# Altium integrated library Capacitor - Aluminium TH.IntLib: 4591 symbols (part 20 of 68)
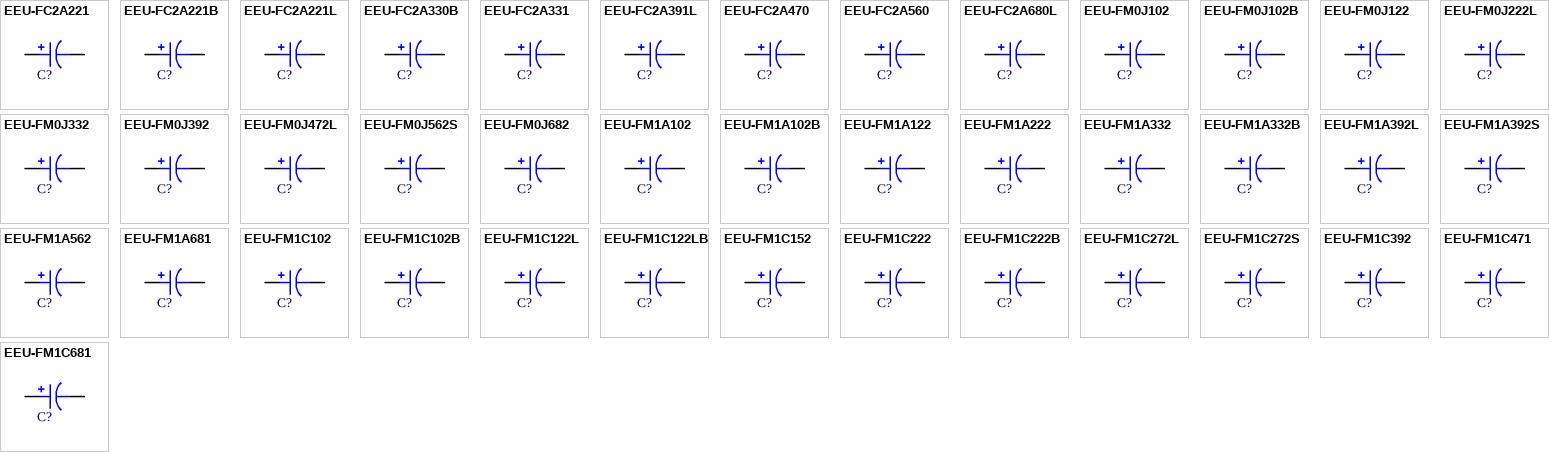
[diagram p133: symbols EEU-FC2A221 to EEU-FM1C681]

## EEU-FM1C102
designator C?, comment 1000uF  (value not drawn)
CAP ALUM 1000UF 20% 16V RADIAL; Part Number: EEU-FM1C102; Manufacturer: Panasonic Electronic Components; TemperatureRange: -40C ~ 105C; Type: Polar; Ripple Current: 1.635A @ 120Hz; Impedance: 19 mOhm; Value: 1000uF; PartId: 25931; Supplier 1: Digi-Key; Supplier Part Number 1: P12366-ND; ComponentLink1Description: Datasheet; ComponentLink1URL: https://industrial.panasonic.com/cdbs/www-data/pdf/RDF0000/ABA0000C63.pdf; ComponentLink2Description: Digi-Key Listing; ComponentLink2URL: https://www.digikey.com/product-detail/en/panasonic-electronic-components/EEU-FM1C102/P12366-ND/613727; Tolerance: 20%; Voltage: 16V; Price: 0.74; Device Package: Radial, Can, 10mm
footprint CAP AL TH D10 L5 H22
pins: 1, 2

## EEU-FM1C102B
designator C?, comment 1000uF  (value not drawn)
CAP ALUM 1000UF 20% 16V RADIAL; Part Number: EEU-FM1C102B; Manufacturer: Panasonic Electronic Components; TemperatureRange: -40C ~ 105C; Type: Polar; Ripple Current: 1.635A @ 120Hz; Impedance: 19 mOhm; Value: 1000uF; PartId: 25784; Supplier 1: Digi-Key; Supplier Part Number 1: P19698TB-ND; ComponentLink1Description: Datasheet; ComponentLink1URL: http://industrial.panasonic.com/www-cgi/jvcr13pz.cgi?E+PZ+3+ABA0108+EEUFM1C102B+7+WW; ComponentLink2Description: Digi-Key Listing; ComponentLink2URL: https://www.digikey.com/product-detail/en/panasonic-electronic-components/EEU-FM1C102B/P19698TB-ND/616336; Tolerance: 20%; Voltage: 16V; Price: 0.2588; Device Package: Radial, Can, 10mm
footprint CAP AL TH D10 L5 H22
pins: 1, 2

## EEU-FM1C122L
designator C?, comment 1200uF  (value not drawn)
CAP ALUM 1200UF 20% 16V RADIAL; Part Number: EEU-FM1C122L; Manufacturer: Panasonic Electronic Components; TemperatureRange: -40C ~ 105C; Type: Polar; Ripple Current: 1.976A @ 120Hz; Impedance: 18 mOhm; Value: 1200uF; PartId: 26065; Supplier 1: Digi-Key; Supplier Part Number 1: P12367-ND; ComponentLink1Description: Datasheet; ComponentLink1URL: http://industrial.panasonic.com/www-cgi/jvcr13pz.cgi?E+PZ+3+ABA0108+EEUFM1C122L+7+WW; ComponentLink2Description: Digi-Key Listing; ComponentLink2URL: https://www.digikey.com/product-detail/en/panasonic-electronic-components/EEU-FM1C122L/P12367-ND/613728; Tolerance: 20%; Voltage: 16V; Price: 0.69; Device Package: Radial, Can, 10mm
footprint CAP AL TH D10 L5 H30
pins: 1, 2

## EEU-FM1C122LB
designator C?, comment 1200uF  (value not drawn)
CAP ALUM 1200UF 20% 16V RADIAL; Part Number: EEU-FM1C122LB; Manufacturer: Panasonic Electronic Components; TemperatureRange: -40C ~ 105C; Type: Polar; Ripple Current: 1.976A @ 120Hz; Impedance: 18 mOhm; Value: 1200uF; PartId: 26008; Supplier 1: Digi-Key; Supplier Part Number 1: P19699TB-ND; ComponentLink1Description: Datasheet; ComponentLink1URL: http://industrial.panasonic.com/www-cgi/jvcr13pz.cgi?E+PZ+3+ABA0108+EEUFM1C122LB+7+WW; ComponentLink2Description: Digi-Key Listing; ComponentLink2URL: https://www.digikey.com/product-detail/en/panasonic-electronic-components/EEU-FM1C122LB/P19699TB-ND/616337; Tolerance: 20%; Voltage: 16V; Price: 0.2762; Device Package: Radial, Can, 10mm
footprint CAP AL TH D10 L5 H30
pins: 1, 2

## EEU-FM1C152
designator C?, comment 1500uF  (value not drawn)
CAP ALUM 1500UF 20% 16V RADIAL; Part Number: EEU-FM1C152; Manufacturer: Panasonic Electronic Components; TemperatureRange: -40C ~ 105C; Type: Polar; Ripple Current: 2.08A @ 120Hz; Impedance: 18 mOhm; Value: 1500uF; PartId: 23279; Supplier 1: Digi-Key; Supplier Part Number 1: P12368-ND; ComponentLink1Description: Datasheet; ComponentLink1URL: https://industrial.panasonic.com/cdbs/www-data/pdf/RDF0000/ABA0000C63.pdf; ComponentLink2Description: Digi-Key Listing; ComponentLink2URL: https://www.digikey.com/product-detail/en/panasonic-electronic-components/EEU-FM1C152/P12368-ND/613729; Tolerance: 20%; Voltage: 16V; Price: 0.78; Device Package: Radial, Can, 12.5mm
footprint CAP AL TH D12.5 L5 H22
pins: 1, 2

## EEU-FM1C222
designator C?, comment 2200uF  (value not drawn)
CAP ALUM 2200UF 20% 16V RADIAL; Part Number: EEU-FM1C222; Manufacturer: Panasonic Electronic Components; TemperatureRange: -40C ~ 105C; Type: Polar; Ripple Current: 2.552A @ 120Hz; Impedance: 15 mOhm; Value: 2200uF; PartId: 23921; Supplier 1: Digi-Key; Supplier Part Number 1: P12369-ND; ComponentLink1Description: Datasheet; ComponentLink1URL: https://industrial.panasonic.com/cdbs/www-data/pdf/RDF0000/ABA0000C63.pdf; ComponentLink2Description: Digi-Key Listing; ComponentLink2URL: https://www.digikey.com/product-detail/en/panasonic-electronic-components/EEU-FM1C222/P12369-ND/613730; Tolerance: 20%; Voltage: 16V; Price: 0.96; Device Package: Radial, Can, 12.5mm
footprint CAP AL TH D12.5 L5 H27
pins: 1, 2

## EEU-FM1C222B
designator C?, comment 2200uF  (value not drawn)
CAP ALUM 2200UF 20% 16V RADIAL; Part Number: EEU-FM1C222B; Manufacturer: Panasonic Electronic Components; TemperatureRange: -40C ~ 105C; Type: Polar; Ripple Current: 2.552A @ 120Hz; Impedance: 15 mOhm; Value: 2200uF; PartId: 23939; Supplier 1: Digi-Key; Supplier Part Number 1: P19700CT-ND; ComponentLink1Description: Datasheet; ComponentLink1URL: http://industrial.panasonic.com/www-cgi/jvcr13pz.cgi?E+PZ+3+ABA0108+EEUFM1C222B+7+WW; ComponentLink2Description: Digi-Key Listing; ComponentLink2URL: https://www.digikey.com/product-detail/en/panasonic-electronic-components/EEU-FM1C222B/P19700CT-ND/6109598; Tolerance: 20%; Voltage: 16V; Price: 0.97; Device Package: Radial, Can, 12.5mm
footprint CAP AL TH D12.5 L5 H27
pins: 1, 2

## EEU-FM1C272L
designator C?, comment 2700uF  (value not drawn)
CAP ALUM 2700UF 20% 16V RADIAL; Part Number: EEU-FM1C272L; Manufacturer: Panasonic Electronic Components; TemperatureRange: -40C ~ 105C; Type: Polar; Ripple Current: 2.904A @ 120Hz; Impedance: 13 mOhm; Value: 2700uF; PartId: 24244; Supplier 1: Digi-Key; Supplier Part Number 1: P12370-ND; ComponentLink1Description: Datasheet; ComponentLink1URL: http://industrial.panasonic.com/www-cgi/jvcr13pz.cgi?E+PZ+3+ABA0108+EEUFM1C272L+7+WW; ComponentLink2Description: Digi-Key Listing; ComponentLink2URL: https://www.digikey.com/product-detail/en/panasonic-electronic-components/EEU-FM1C272L/P12370-ND/613731; Tolerance: 20%; Voltage: 16V; Price: 1.01; Device Package: Radial, Can, 12.5mm
footprint CAP AL TH D12.5 L5 H35.5
pins: 1, 2

## EEU-FM1C272S
designator C?, comment 2700uF  (value not drawn)
CAP ALUM 2700UF 20% 16V RADIAL; Part Number: EEU-FM1C272S; Manufacturer: Panasonic Electronic Components; TemperatureRange: -40C ~ 105C; Type: Polar; Ripple Current: 2.64A @ 120Hz; Impedance: 17 mOhm; Value: 2700uF; PartId: 26415; Supplier 1: Digi-Key; Supplier Part Number 1: P12371-ND; ComponentLink1Description: Datasheet; ComponentLink1URL: http://industrial.panasonic.com/www-cgi/jvcr13pz.cgi?E+PZ+3+ABA0108+EEUFM1C272S+7+WW; ComponentLink2Description: Digi-Key Listing; ComponentLink2URL: https://www.digikey.com/product-detail/en/panasonic-electronic-components/EEU-FM1C272S/P12371-ND/613732; Tolerance: 20%; Voltage: 16V; Price: 1.08; Device Package: Radial, Can, 16mm
footprint CAP AL TH D16 L7.5 H22
pins: 1, 2

## EEU-FM1C392
designator C?, comment 3900uF  (value not drawn)
CAP ALUM 3900UF 20% 16V RADIAL; Part Number: EEU-FM1C392; Manufacturer: Panasonic Electronic Components; TemperatureRange: -40C ~ 105C; Type: Polar; Ripple Current: 3.056A @ 120Hz; Impedance: 14 mOhm; Value: 3900uF; PartId: 26871; Supplier 1: Digi-Key; Supplier Part Number 1: P12374-ND; ComponentLink1Description: Datasheet; ComponentLink1URL: https://industrial.panasonic.com/cdbs/www-data/pdf/RDF0000/ABA0000C63.pdf; ComponentLink2Description: Digi-Key Listing; ComponentLink2URL: https://www.digikey.com/product-detail/en/panasonic-electronic-components/EEU-FM1C392/P12374-ND/613735; Tolerance: 20%; Voltage: 16V; Price: 1.28; Device Package: Radial, Can, 16mm
footprint CAP AL TH D16 L7.5 H27
pins: 1, 2

## EEU-FM1C471
designator C?, comment 470uF  (value not drawn)
CAP ALUM 470UF 20% 16V RADIAL; Part Number: EEU-FM1C471; Manufacturer: Panasonic Electronic Components; TemperatureRange: -40C ~ 105C; Type: Polar; Ripple Current: 967.5mA @ 120Hz; Impedance: 38 mOhm; Value: 470uF; PartId: 24825; Supplier 1: Digi-Key; Supplier Part Number 1: P12375-ND; ComponentLink1Description: Datasheet; ComponentLink1URL: https://industrial.panasonic.com/cdbs/www-data/pdf/RDF0000/ABA0000C63.pdf; ComponentLink2Description: Digi-Key Listing; ComponentLink2URL: https://www.digikey.com/product-detail/en/panasonic-electronic-components/EEU-FM1C471/P12375-ND/613736; Tolerance: 20%; Voltage: 16V; Price: 0.46; Device Package: Radial, Can, 10mm
footprint CAP AL TH D10 L5 H14.5
pins: 1, 2

## EEU-FM1C681
designator C?, comment 680uF  (value not drawn)
CAP ALUM 680UF 20% 16V RADIAL; Part Number: EEU-FM1C681; Manufacturer: Panasonic Electronic Components; TemperatureRange: -40C ~ 105C; Type: Polar; Ripple Current: 1.343A @ 120Hz; Impedance: 26 mOhm; Value: 680uF; PartId: 25289; Supplier 1: Digi-Key; Supplier Part Number 1: P12377-ND; ComponentLink1Description: Datasheet; ComponentLink1URL: https://industrial.panasonic.com/cdbs/www-data/pdf/RDF0000/ABA0000C63.pdf; ComponentLink2Description: Digi-Key Listing; ComponentLink2URL: https://www.digikey.com/product-detail/en/panasonic-electronic-components/EEU-FM1C681/P12377-ND/613738; Tolerance: 20%; Voltage: 16V; Price: 0.63; Device Package: Radial, Can, 10mm
footprint CAP AL TH D10 L5 H17.5
pins: 1, 2

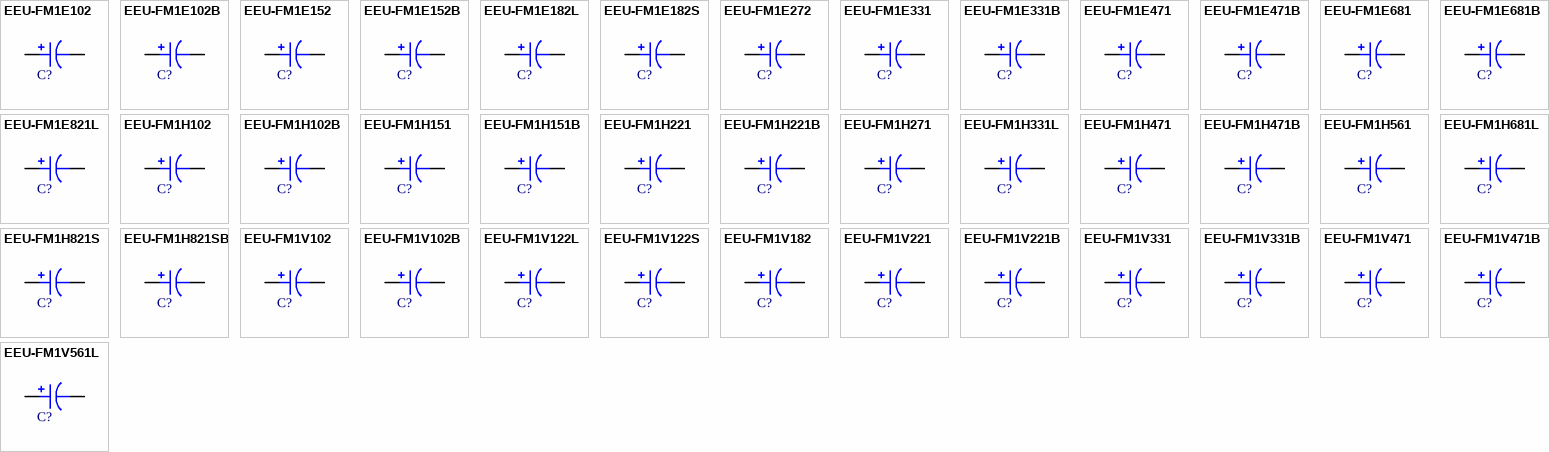
[diagram p32: symbols EEU-FM1E102 to EEU-FM1V561L]

## EEU-FM1E102
designator C?, comment 1000uF  (value not drawn)
CAP ALUM 1000UF 20% 25V RADIAL; Part Number: EEU-FM1E102; Manufacturer: Panasonic Electronic Components; TemperatureRange: -40C ~ 105C; Type: Polar; Ripple Current: 1.95A @ 120Hz; Impedance: 18 mOhm; Value: 1000uF; PartId: 23346; Supplier 1: Digi-Key; Supplier Part Number 1: P12379-ND; ComponentLink1Description: Datasheet; ComponentLink1URL: https://industrial.panasonic.com/cdbs/www-data/pdf/RDF0000/ABA0000C63.pdf; ComponentLink2Description: Digi-Key Listing; ComponentLink2URL: https://www.digikey.com/product-detail/en/panasonic-electronic-components/EEU-FM1E102/P12379-ND/613740; Tolerance: 20%; Voltage: 25V; Price: 0.85; Device Package: Radial, Can, 12.5mm
footprint CAP AL TH D12.5 L5 H22
pins: 1, 2

## EEU-FM1E102B
designator C?, comment 1000uF  (value not drawn)
CAP ALUM 1000UF 20% 25V RADIAL; Part Number: EEU-FM1E102B; Manufacturer: Panasonic Electronic Components; TemperatureRange: -40C ~ 105C; Type: Polar; Ripple Current: 1.95A @ 120Hz; Impedance: 18 mOhm; Value: 1000uF; PartId: 23161; Supplier 1: Digi-Key; Supplier Part Number 1: P19703TB-ND; ComponentLink1Description: Datasheet; ComponentLink1URL: http://industrial.panasonic.com/www-cgi/jvcr13pz.cgi?E+PZ+3+ABA0108+EEUFM1E102B+7+WW; ComponentLink2Description: Digi-Key Listing; ComponentLink2URL: https://www.digikey.com/product-detail/en/panasonic-electronic-components/EEU-FM1E102B/P19703TB-ND/616347; Tolerance: 20%; Voltage: 25V; Price: 0.3274; Device Package: Radial, Can, 12.5mm
footprint CAP AL TH D12.5 L5 H22
pins: 1, 2

## EEU-FM1E152
designator C?, comment 1500uF  (value not drawn)
CAP ALUM 1500UF 20% 25V RADIAL; Part Number: EEU-FM1E152; Manufacturer: Panasonic Electronic Components; TemperatureRange: -40C ~ 105C; Type: Polar; Ripple Current: 2.552A @ 120Hz; Impedance: 15 mOhm; Value: 1500uF; PartId: 23934; Supplier 1: Digi-Key; Supplier Part Number 1: P12380-ND; ComponentLink1Description: Datasheet; ComponentLink1URL: https://industrial.panasonic.com/cdbs/www-data/pdf/RDF0000/ABA0000C63.pdf; ComponentLink2Description: Digi-Key Listing; ComponentLink2URL: https://www.digikey.com/product-detail/en/panasonic-electronic-components/EEU-FM1E152/P12380-ND/613741; Tolerance: 20%; Voltage: 25V; Price: 0.97; Device Package: Radial, Can, 12.5mm
footprint CAP AL TH D12.5 L5 H27
pins: 1, 2

## EEU-FM1E152B
designator C?, comment 1500uF  (value not drawn)
CAP ALUM 1500UF 20% 25V RADIAL; Part Number: EEU-FM1E152B; Manufacturer: Panasonic Electronic Components; TemperatureRange: -40C ~ 105C; Type: Polar; Ripple Current: 2.552A @ 120Hz; Impedance: 15 mOhm; Value: 1500uF; PartId: 23811; Supplier 1: Digi-Key; Supplier Part Number 1: P19704TB-ND; ComponentLink1Description: Datasheet; ComponentLink1URL: http://industrial.panasonic.com/www-cgi/jvcr13pz.cgi?E+PZ+3+ABA0108+EEUFM1E152B+7+WW; ComponentLink2Description: Digi-Key Listing; ComponentLink2URL: https://www.digikey.com/product-detail/en/panasonic-electronic-components/EEU-FM1E152B/P19704TB-ND/616348; Tolerance: 20%; Voltage: 25V; Price: 0.4122; Device Package: Radial, Can, 12.5mm
footprint CAP AL TH D12.5 L5 H27
pins: 1, 2

## EEU-FM1E182L
designator C?, comment 1800uF  (value not drawn)
CAP ALUM 1800UF 20% 25V RADIAL; Part Number: EEU-FM1E182L; Manufacturer: Panasonic Electronic Components; TemperatureRange: -40C ~ 105C; Type: Polar; Ripple Current: 2.904A @ 120Hz; Impedance: 13 mOhm; Value: 1800uF; PartId: 24241; Supplier 1: Digi-Key; Supplier Part Number 1: P12381-ND; ComponentLink1Description: Datasheet; ComponentLink1URL: http://industrial.panasonic.com/www-cgi/jvcr13pz.cgi?E+PZ+3+ABA0108+EEUFM1E182L+7+WW; ComponentLink2Description: Digi-Key Listing; ComponentLink2URL: https://www.digikey.com/product-detail/en/panasonic-electronic-components/EEU-FM1E182L/P12381-ND/613742; Tolerance: 20%; Voltage: 25V; Price: 1.01; Device Package: Radial, Can, 12.5mm
footprint CAP AL TH D12.5 L5 H35.5
pins: 1, 2

## EEU-FM1E182S
designator C?, comment 1800uF  (value not drawn)
CAP ALUM 1800UF 20% 25V RADIAL; Part Number: EEU-FM1E182S; Manufacturer: Panasonic Electronic Components; TemperatureRange: -40C ~ 105C; Type: Polar; Ripple Current: 2.64A @ 120Hz; Impedance: 17 mOhm; Value: 1800uF; PartId: 26413; Supplier 1: Digi-Key; Supplier Part Number 1: P12382-ND; ComponentLink1Description: Datasheet; ComponentLink1URL: http://industrial.panasonic.com/www-cgi/jvcr13pz.cgi?E+PZ+3+ABA0108+EEUFM1E182S+7+WW; ComponentLink2Description: Digi-Key Listing; ComponentLink2URL: https://www.digikey.com/product-detail/en/panasonic-electronic-components/EEU-FM1E182S/P12382-ND/613743; Tolerance: 20%; Voltage: 25V; Price: 1.08; Device Package: Radial, Can, 16mm
footprint CAP AL TH D16 L7.5 H22
pins: 1, 2

## EEU-FM1E272
designator C?, comment 2700uF  (value not drawn)
CAP ALUM 2700UF 20% 25V RADIAL; Part Number: EEU-FM1E272; Manufacturer: Panasonic Electronic Components; TemperatureRange: -40C ~ 105C; Type: Polar; Ripple Current: 3.056A @ 120Hz; Impedance: 14 mOhm; Value: 2700uF; PartId: 26869; Supplier 1: Digi-Key; Supplier Part Number 1: P12385-ND; ComponentLink1Description: Datasheet; ComponentLink1URL: https://industrial.panasonic.com/cdbs/www-data/pdf/RDF0000/ABA0000C63.pdf; ComponentLink2Description: Digi-Key Listing; ComponentLink2URL: https://www.digikey.com/product-detail/en/panasonic-electronic-components/EEU-FM1E272/P12385-ND/613746; Tolerance: 20%; Voltage: 25V; Price: 1.28; Device Package: Radial, Can, 16mm
footprint CAP AL TH D16 L7.5 H27
pins: 1, 2

## EEU-FM1E331
designator C?, comment 330uF  (value not drawn)
CAP ALUM 330UF 20% 25V RADIAL; Part Number: EEU-FM1E331; Manufacturer: Panasonic Electronic Components; TemperatureRange: -40C ~ 105C; Type: Polar; Ripple Current: 903mA @ 120Hz; Impedance: 38 mOhm; Value: 330uF; PartId: 24827; Supplier 1: Digi-Key; Supplier Part Number 1: P12386-ND; ComponentLink1Description: Datasheet; ComponentLink1URL: https://industrial.panasonic.com/cdbs/www-data/pdf/RDF0000/ABA0000C63.pdf; ComponentLink2Description: Digi-Key Listing; ComponentLink2URL: https://www.digikey.com/product-detail/en/panasonic-electronic-components/EEU-FM1E331/P12386-ND/613747; Tolerance: 20%; Voltage: 25V; Price: 0.46; Device Package: Radial, Can, 10mm
footprint CAP AL TH D10 L5 H14.5
pins: 1, 2

## EEU-FM1E331B
designator C?, comment 330uF  (value not drawn)
CAP ALUM 330UF 20% 25V RADIAL; Part Number: EEU-FM1E331B; Manufacturer: Panasonic Electronic Components; TemperatureRange: -40C ~ 105C; Type: Polar; Ripple Current: 903mA @ 120Hz; Impedance: 38 mOhm; Value: 330uF; PartId: 24581; Supplier 1: Digi-Key; Supplier Part Number 1: P19707TB-ND; ComponentLink1Description: Datasheet; ComponentLink1URL: http://industrial.panasonic.com/www-cgi/jvcr13pz.cgi?E+PZ+3+ABA0108+EEUFM1E331B+7+WW; ComponentLink2Description: Digi-Key Listing; ComponentLink2URL: https://www.digikey.com/product-detail/en/panasonic-electronic-components/EEU-FM1E331B/P19707TB-ND/616352; Tolerance: 20%; Voltage: 25V; Price: 0.1618; Device Package: Radial, Can, 10mm
footprint CAP AL TH D10 L5 H14.5
pins: 1, 2

## EEU-FM1E471
designator C?, comment 470uF  (value not drawn)
CAP ALUM 470UF 20% 25V RADIAL; Part Number: EEU-FM1E471; Manufacturer: Panasonic Electronic Components; TemperatureRange: -40C ~ 105C; Type: Polar; Ripple Current: 1.3425A @ 120Hz; Impedance: 26 mOhm; Value: 470uF; PartId: 25269; Supplier 1: Digi-Key; Supplier Part Number 1: P12388-ND; ComponentLink1Description: Datasheet; ComponentLink1URL: https://industrial.panasonic.com/cdbs/www-data/pdf/RDF0000/ABA0000C63.pdf; ComponentLink2Description: Digi-Key Listing; ComponentLink2URL: https://www.digikey.com/product-detail/en/panasonic-electronic-components/EEU-FM1E471/P12388-ND/613749; Tolerance: 20%; Voltage: 25V; Price: 0.61; Device Package: Radial, Can, 10mm
footprint CAP AL TH D10 L5 H17.5
pins: 1, 2

## EEU-FM1E471B
designator C?, comment 470uF  (value not drawn)
CAP ALUM 470UF 20% 25V RADIAL; Part Number: EEU-FM1E471B; Manufacturer: Panasonic Electronic Components; TemperatureRange: -40C ~ 105C; Type: Polar; Ripple Current: 1.343A @ 120Hz; Impedance: 26 mOhm; Value: 470uF; PartId: 25057; Supplier 1: Digi-Key; Supplier Part Number 1: P19709TB-ND; ComponentLink1Description: Datasheet; ComponentLink1URL: http://industrial.panasonic.com/www-cgi/jvcr13pz.cgi?E+PZ+3+ABA0108+EEUFM1E471B+7+WW; ComponentLink2Description: Digi-Key Listing; ComponentLink2URL: https://www.digikey.com/product-detail/en/panasonic-electronic-components/EEU-FM1E471B/P19709TB-ND/616354; Tolerance: 20%; Voltage: 25V; Price: 0.2156; Device Package: Radial, Can, 10mm
footprint CAP AL TH D10 L5 H17.5
pins: 1, 2

## EEU-FM1E681
designator C?, comment 680uF  (value not drawn)
CAP ALUM 680UF 20% 25V RADIAL; Part Number: EEU-FM1E681; Manufacturer: Panasonic Electronic Components; TemperatureRange: -40C ~ 105C; Type: Polar; Ripple Current: 1.635A @ 120Hz; Impedance: 19 mOhm; Value: 680uF; PartId: 25933; Supplier 1: Digi-Key; Supplier Part Number 1: P12390-ND; ComponentLink1Description: Datasheet; ComponentLink1URL: https://industrial.panasonic.com/cdbs/www-data/pdf/RDF0000/ABA0000C63.pdf; ComponentLink2Description: Digi-Key Listing; ComponentLink2URL: https://www.digikey.com/product-detail/en/panasonic-electronic-components/EEU-FM1E681/P12390-ND/613751; Tolerance: 20%; Voltage: 25V; Price: 0.74; Device Package: Radial, Can, 10mm
footprint CAP AL TH D10 L5 H22
pins: 1, 2

## EEU-FM1E681B
designator C?, comment 680uF  (value not drawn)
CAP ALUM 680UF 20% 25V RADIAL; Part Number: EEU-FM1E681B; Manufacturer: Panasonic Electronic Components; TemperatureRange: -40C ~ 105C; Type: Polar; Ripple Current: 1.635A @ 120Hz; Impedance: 19 mOhm; Value: 680uF; PartId: 25785; Supplier 1: Digi-Key; Supplier Part Number 1: P19711TB-ND; ComponentLink1Description: Datasheet; ComponentLink1URL: http://industrial.panasonic.com/www-cgi/jvcr13pz.cgi?E+PZ+3+ABA0108+EEUFM1E681B+7+WW; ComponentLink2Description: Digi-Key Listing; ComponentLink2URL: https://www.digikey.com/product-detail/en/panasonic-electronic-components/EEU-FM1E681B/P19711TB-ND/616356; Tolerance: 20%; Voltage: 25V; Price: 0.2588; Device Package: Radial, Can, 10mm
footprint CAP AL TH D10 L5 H22
pins: 1, 2

## EEU-FM1E821L
designator C?, comment 820uF  (value not drawn)
CAP ALUM 820UF 20% 25V RADIAL; Part Number: EEU-FM1E821L; Manufacturer: Panasonic Electronic Components; TemperatureRange: -40C ~ 105C; Type: Polar; Ripple Current: 1.853A @ 120Hz; Impedance: 18 mOhm; Value: 820uF; PartId: 26061; Supplier 1: Digi-Key; Supplier Part Number 1: P12391-ND; ComponentLink1Description: Datasheet; ComponentLink1URL: http://industrial.panasonic.com/www-cgi/jvcr13pz.cgi?E+PZ+3+ABA0108+EEUFM1E821L+7+WW; ComponentLink2Description: Digi-Key Listing; ComponentLink2URL: https://www.digikey.com/product-detail/en/panasonic-electronic-components/EEU-FM1E821L/P12391-ND/613752; Tolerance: 20%; Voltage: 25V; Price: 0.68; Device Package: Radial, Can, 10mm
footprint CAP AL TH D10 L5 H30
pins: 1, 2

## EEU-FM1H102
designator C?, comment 1000uF  (value not drawn)
CAP ALUM 1000UF 20% 50V RADIAL; Part Number: EEU-FM1H102; Manufacturer: Panasonic Electronic Components; TemperatureRange: -40C ~ 105C; Type: Polar; Ripple Current: 2.49A @ 120Hz; Impedance: 16 mOhm; Value: 1000uF; PartId: 26862; Supplier 1: Digi-Key; Supplier Part Number 1: P12393-ND; ComponentLink1Description: Datasheet; ComponentLink1URL: https://industrial.panasonic.com/cdbs/www-data/pdf/RDF0000/ABA0000C63.pdf; ComponentLink2Description: Digi-Key Listing; ComponentLink2URL: https://www.digikey.com/product-detail/en/panasonic-electronic-components/EEU-FM1H102/P12393-ND/613754; Tolerance: 20%; Voltage: 50V; Price: 1.25; Device Package: Radial, Can, 16mm
footprint CAP AL TH D16 L7.5 H27
pins: 1, 2

## EEU-FM1H102B
designator C?, comment 1000uF  (value not drawn)
CAP ALUM 1000UF 20% 50V RADIAL; Part Number: EEU-FM1H102B; Manufacturer: Panasonic Electronic Components; TemperatureRange: -40C ~ 105C; Type: Polar; Ripple Current: 2.49A @ 120Hz; Impedance: 16 mOhm; Value: 1000uF; PartId: 26791; Supplier 1: Digi-Key; Supplier Part Number 1: P19714TB-ND; ComponentLink1Description: Datasheet; ComponentLink1URL: http://industrial.panasonic.com/www-cgi/jvcr13pz.cgi?E+PZ+3+ABA0108+EEUFM1H102B+7+WW; ComponentLink2Description: Digi-Key Listing; ComponentLink2URL: https://www.digikey.com/product-detail/en/panasonic-electronic-components/EEU-FM1H102B/P19714TB-ND/616359; Tolerance: 20%; Voltage: 50V; Price: 0.6736; Device Package: Radial, Can, 16mm
footprint CAP AL TH D16 L7.5 H27
pins: 1, 2

## EEU-FM1H151
designator C?, comment 150uF  (value not drawn)
CAP ALUM 150UF 20% 50V RADIAL; Part Number: EEU-FM1H151; Manufacturer: Panasonic Electronic Components; TemperatureRange: -40C ~ 105C; Type: Polar; Ripple Current: 819mA @ 120Hz; Impedance: 42 mOhm; Value: 150uF; PartId: 24826; Supplier 1: Digi-Key; Supplier Part Number 1: P12395-ND; ComponentLink1Description: Datasheet; ComponentLink1URL: https://industrial.panasonic.com/cdbs/www-data/pdf/RDF0000/ABA0000C63.pdf; ComponentLink2Description: Digi-Key Listing; ComponentLink2URL: https://www.digikey.com/product-detail/en/panasonic-electronic-components/EEU-FM1H151/P12395-ND/613756; Tolerance: 20%; Voltage: 50V; Price: 0.46; Device Package: Radial, Can, 10mm
footprint CAP AL TH D10 L5 H14.5
pins: 1, 2

## EEU-FM1H151B
designator C?, comment 150uF  (value not drawn)
CAP ALUM 150UF 20% 50V RADIAL; Part Number: EEU-FM1H151B; Manufacturer: Panasonic Electronic Components; TemperatureRange: -40C ~ 105C; Type: Polar; Ripple Current: 819mA @ 120Hz; Impedance: 42 mOhm; Value: 150uF; PartId: 24580; Supplier 1: Digi-Key; Supplier Part Number 1: P19715TB-ND; ComponentLink1Description: Datasheet; ComponentLink1URL: http://industrial.panasonic.com/www-cgi/jvcr13pz.cgi?E+PZ+3+ABA0108+EEUFM1H151B+7+WW; ComponentLink2Description: Digi-Key Listing; ComponentLink2URL: https://www.digikey.com/product-detail/en/panasonic-electronic-components/EEU-FM1H151B/P19715TB-ND/616361; Tolerance: 20%; Voltage: 50V; Price: 0.1618; Device Package: Radial, Can, 10mm
footprint CAP AL TH D10 L5 H14.5
pins: 1, 2

## EEU-FM1H221
designator C?, comment 220uF  (value not drawn)
CAP ALUM 220UF 20% 50V RADIAL; Part Number: EEU-FM1H221; Manufacturer: Panasonic Electronic Components; TemperatureRange: -40C ~ 105C; Type: Polar; Ripple Current: 1.155A @ 120Hz; Impedance: 30 mOhm; Value: 220uF; PartId: 25270; Supplier 1: Digi-Key; Supplier Part Number 1: P12397-ND; ComponentLink1Description: Datasheet; ComponentLink1URL: https://industrial.panasonic.com/cdbs/www-data/pdf/RDF0000/ABA0000C63.pdf; ComponentLink2Description: Digi-Key Listing; ComponentLink2URL: https://www.digikey.com/product-detail/en/panasonic-electronic-components/EEU-FM1H221/P12397-ND/613758; Tolerance: 20%; Voltage: 50V; Price: 0.61; Device Package: Radial, Can, 10mm
footprint CAP AL TH D10 L5 H17.5
pins: 1, 2

## EEU-FM1H221B
designator C?, comment 220uF  (value not drawn)
CAP ALUM 220UF 20% 50V RADIAL; Part Number: EEU-FM1H221B; Manufacturer: Panasonic Electronic Components; TemperatureRange: -40C ~ 105C; Type: Polar; Ripple Current: 1.155A @ 120Hz; Impedance: 30 mOhm; Value: 220uF; PartId: 25056; Supplier 1: Digi-Key; Supplier Part Number 1: P19716TB-ND; ComponentLink1Description: Datasheet; ComponentLink1URL: http://industrial.panasonic.com/www-cgi/jvcr13pz.cgi?E+PZ+3+ABA0108+EEUFM1H221B+7+WW; ComponentLink2Description: Digi-Key Listing; ComponentLink2URL: https://www.digikey.com/product-detail/en/panasonic-electronic-components/EEU-FM1H221B/P19716TB-ND/616363; Tolerance: 20%; Voltage: 50V; Price: 0.2156; Device Package: Radial, Can, 10mm
footprint CAP AL TH D10 L5 H17.5
pins: 1, 2

## EEU-FM1H271
designator C?, comment 270uF  (value not drawn)
CAP ALUM 270UF 20% 50V RADIAL; Part Number: EEU-FM1H271; Manufacturer: Panasonic Electronic Components; TemperatureRange: -40C ~ 105C; Type: Polar; Ripple Current: 1.323A @ 120Hz; Impedance: 23 mOhm; Value: 270uF; PartId: 25943; Supplier 1: Digi-Key; Supplier Part Number 1: P12398-ND; ComponentLink1Description: Datasheet; ComponentLink1URL: https://industrial.panasonic.com/cdbs/www-data/pdf/RDF0000/ABA0000C63.pdf; ComponentLink2Description: Digi-Key Listing; ComponentLink2URL: https://www.digikey.com/product-detail/en/panasonic-electronic-components/EEU-FM1H271/P12398-ND/613759; Tolerance: 20%; Voltage: 50V; Price: 0.75; Device Package: Radial, Can, 10mm
footprint CAP AL TH D10 L5 H22
pins: 1, 2

## EEU-FM1H331L
designator C?, comment 330uF  (value not drawn)
CAP ALUM 330UF 20% 50V RADIAL; Part Number: EEU-FM1H331L; Manufacturer: Panasonic Electronic Components; TemperatureRange: -40C ~ 105C; Type: Polar; Ripple Current: 1.505A @ 120Hz; Impedance: 22 mOhm; Value: 330uF; PartId: 26060; Supplier 1: Digi-Key; Supplier Part Number 1: P12399-ND; ComponentLink1Description: Datasheet; ComponentLink1URL: http://industrial.panasonic.com/www-cgi/jvcr13pz.cgi?E+PZ+3+ABA0108+EEUFM1H331L+7+WW; ComponentLink2Description: Digi-Key Listing; ComponentLink2URL: https://www.digikey.com/product-detail/en/panasonic-electronic-components/EEU-FM1H331L/P12399-ND/613760; Tolerance: 20%; Voltage: 50V; Price: 0.68; Device Package: Radial, Can, 10mm
footprint CAP AL TH D10 L5 H30
pins: 1, 2

## EEU-FM1H471
designator C?, comment 470uF  (value not drawn)
CAP ALUM 470UF 20% 50V RADIAL; Part Number: EEU-FM1H471; Manufacturer: Panasonic Electronic Components; TemperatureRange: -40C ~ 105C; Type: Polar; Ripple Current: 1.695A @ 120Hz; Impedance: 22 mOhm; Value: 470uF; PartId: 23342; Supplier 1: Digi-Key; Supplier Part Number 1: P12400-ND; ComponentLink1Description: Datasheet; ComponentLink1URL: https://industrial.panasonic.com/cdbs/www-data/pdf/RDF0000/ABA0000C63.pdf; ComponentLink2Description: Digi-Key Listing; ComponentLink2URL: https://www.digikey.com/product-detail/en/panasonic-electronic-components/EEU-FM1H471/P12400-ND/613761; Tolerance: 20%; Voltage: 50V; Price: 0.85; Device Package: Radial, Can, 12.5mm
footprint CAP AL TH D12.5 L5 H22
pins: 1, 2

## EEU-FM1H471B
designator C?, comment 470uF  (value not drawn)
CAP ALUM 470UF 20% 50V RADIAL; Part Number: EEU-FM1H471B; Manufacturer: Panasonic Electronic Components; TemperatureRange: -40C ~ 105C; Type: Polar; Ripple Current: 1.695A @ 120Hz; Impedance: 22 mOhm; Value: 470uF; PartId: 23160; Supplier 1: Digi-Key; Supplier Part Number 1: P19717TB-ND; ComponentLink1Description: Datasheet; ComponentLink1URL: http://industrial.panasonic.com/www-cgi/jvcr13pz.cgi?E+PZ+3+ABA0108+EEUFM1H471B+7+WW; ComponentLink2Description: Digi-Key Listing; ComponentLink2URL: https://www.digikey.com/product-detail/en/panasonic-electronic-components/EEU-FM1H471B/P19717TB-ND/616366; Tolerance: 20%; Voltage: 50V; Price: 0.3274; Device Package: Radial, Can, 12.5mm
footprint CAP AL TH D12.5 L5 H22
pins: 1, 2

## EEU-FM1H561
designator C?, comment 560uF  (value not drawn)
CAP ALUM 560UF 20% 50V RADIAL; Part Number: EEU-FM1H561; Manufacturer: Panasonic Electronic Components; TemperatureRange: -40C ~ 105C; Type: Polar; Ripple Current: 1.995A @ 120Hz; Impedance: 18 mOhm; Value: 560uF; PartId: 23952; Supplier 1: Digi-Key; Supplier Part Number 1: P12401-ND; ComponentLink1Description: Datasheet; ComponentLink1URL: https://industrial.panasonic.com/cdbs/www-data/pdf/RDF0000/ABA0000C63.pdf; ComponentLink2Description: Digi-Key Listing; ComponentLink2URL: https://www.digikey.com/product-detail/en/panasonic-electronic-components/EEU-FM1H561/P12401-ND/613762; Tolerance: 20%; Voltage: 50V; Price: 0.98; Device Package: Radial, Can, 12.5mm
footprint CAP AL TH D12.5 L5 H27
pins: 1, 2

## EEU-FM1H681L
designator C?, comment 680uF  (value not drawn)
CAP ALUM 680UF 20% 50V RADIAL; Part Number: EEU-FM1H681L; Manufacturer: Panasonic Electronic Components; TemperatureRange: -40C ~ 105C; Type: Polar; Ripple Current: 2.37A @ 120Hz; Impedance: 16 mOhm; Value: 680uF; PartId: 24235; Supplier 1: Digi-Key; Supplier Part Number 1: P12402-ND; ComponentLink1Description: Datasheet; ComponentLink1URL: http://industrial.panasonic.com/www-cgi/jvcr13pz.cgi?E+PZ+3+ABA0108+EEUFM1H681L+7+WW; ComponentLink2Description: Digi-Key Listing; ComponentLink2URL: https://www.digikey.com/product-detail/en/panasonic-electronic-components/EEU-FM1H681L/P12402-ND/613763; Tolerance: 20%; Voltage: 50V; Price: 0.99; Device Package: Radial, Can, 12.5mm
footprint CAP AL TH D12.5 L5 H35.5
pins: 1, 2

## EEU-FM1H821S
designator C?, comment 820uF  (value not drawn)
CAP ALUM 820UF 20% 50V RADIAL; Part Number: EEU-FM1H821S; Manufacturer: Panasonic Electronic Components; TemperatureRange: -40C ~ 105C; Type: Polar; Ripple Current: 2.153A @ 120Hz; Impedance: 19 mOhm; Value: 820uF; PartId: 26412; Supplier 1: Digi-Key; Supplier Part Number 1: P12404-ND; ComponentLink1Description: Datasheet; ComponentLink1URL: http://industrial.panasonic.com/www-cgi/jvcr13pz.cgi?E+PZ+3+ABA0108+EEUFM1H821S+7+WW; ComponentLink2Description: Digi-Key Listing; ComponentLink2URL: https://www.digikey.com/product-detail/en/panasonic-electronic-components/EEU-FM1H821S/P12404-ND/613765; Tolerance: 20%; Voltage: 50V; Price: 1.05; Device Package: Radial, Can, 16mm
footprint CAP AL TH D16 L7.5 H22
pins: 1, 2

## EEU-FM1H821SB
designator C?, comment 820uF  (value not drawn)
CAP ALUM 820UF 20% 50V RADIAL; Part Number: EEU-FM1H821SB; Manufacturer: Panasonic Electronic Components; TemperatureRange: -40C ~ 105C; Type: Polar; Ripple Current: 2.153A @ 120Hz; Impedance: 19 mOhm; Value: 820uF; PartId: 26366; Supplier 1: Digi-Key; Supplier Part Number 1: P19718TB-ND; ComponentLink1Description: Datasheet; ComponentLink1URL: http://industrial.panasonic.com/www-cgi/jvcr13pz.cgi?E+PZ+3+ABA0108+EEUFM1H821SB+7+WW; ComponentLink2Description: Digi-Key Listing; ComponentLink2URL: https://www.digikey.com/product-detail/en/panasonic-electronic-components/EEU-FM1H821SB/P19718TB-ND/616368; Tolerance: 20%; Voltage: 50V; Price: 0.5658; Device Package: Radial, Can, 16mm
footprint CAP AL TH D16 L7.5 H22
pins: 1, 2

## EEU-FM1V102
designator C?, comment 1000uF  (value not drawn)
CAP ALUM 1000UF 20% 35V RADIAL; Part Number: EEU-FM1V102; Manufacturer: Panasonic Electronic Components; TemperatureRange: -40C ~ 105C; Type: Polar; Ripple Current: 2.393A @ 120Hz; Impedance: 15 mOhm; Value: 1000uF; PartId: 23922; Supplier 1: Digi-Key; Supplier Part Number 1: P12405-ND; ComponentLink1Description: Datasheet; ComponentLink1URL: https://industrial.panasonic.com/cdbs/www-data/pdf/RDF0000/ABA0000C63.pdf; ComponentLink2Description: Digi-Key Listing; ComponentLink2URL: https://www.digikey.com/product-detail/en/panasonic-electronic-components/EEU-FM1V102/P12405-ND/613766; Tolerance: 20%; Voltage: 35V; Price: 0.96; Device Package: Radial, Can, 12.5mm
footprint CAP AL TH D12.5 L5 H27
pins: 1, 2

## EEU-FM1V102B
designator C?, comment 1000uF  (value not drawn)
CAP ALUM 1000UF 20% 35V RADIAL; Part Number: EEU-FM1V102B; Manufacturer: Panasonic Electronic Components; TemperatureRange: -40C ~ 105C; Type: Polar; Ripple Current: 2.393A @ 120Hz; Impedance: 15 mOhm; Value: 1000uF; PartId: 23812; Supplier 1: Digi-Key; Supplier Part Number 1: P19719TB-ND; ComponentLink1Description: Datasheet; ComponentLink1URL: http://industrial.panasonic.com/www-cgi/jvcr13pz.cgi?E+PZ+3+ABA0108+EEUFM1V102B+7+WW; ComponentLink2Description: Digi-Key Listing; ComponentLink2URL: https://www.digikey.com/product-detail/en/panasonic-electronic-components/EEU-FM1V102B/P19719TB-ND/616369; Tolerance: 20%; Voltage: 35V; Price: 0.4122; Device Package: Radial, Can, 12.5mm
footprint CAP AL TH D12.5 L5 H27
pins: 1, 2

## EEU-FM1V122L
designator C?, comment 1200uF  (value not drawn)
CAP ALUM 1200UF 20% 35V RADIAL; Part Number: EEU-FM1V122L; Manufacturer: Panasonic Electronic Components; TemperatureRange: -40C ~ 105C; Type: Polar; Ripple Current: 2.904A @ 120Hz; Impedance: 13 mOhm; Value: 1200uF; PartId: 24237; Supplier 1: Digi-Key; Supplier Part Number 1: P12406-ND; ComponentLink1Description: Datasheet; ComponentLink1URL: http://industrial.panasonic.com/www-cgi/jvcr13pz.cgi?E+PZ+3+ABA0108+EEUFM1V122L+7+WW; ComponentLink2Description: Digi-Key Listing; ComponentLink2URL: https://www.digikey.com/product-detail/en/panasonic-electronic-components/EEU-FM1V122L/P12406-ND/613767; Tolerance: 20%; Voltage: 35V; Price: 0.99; Device Package: Radial, Can, 12.5mm
footprint CAP AL TH D12.5 L5 H35.5
pins: 1, 2

## EEU-FM1V122S
designator C?, comment 1200uF  (value not drawn)
CAP ALUM 1200UF 20% 35V RADIAL; Part Number: EEU-FM1V122S; Manufacturer: Panasonic Electronic Components; TemperatureRange: -40C ~ 105C; Type: Polar; Ripple Current: 2.64A @ 120Hz; Impedance: 17 mOhm; Value: 1200uF; PartId: 26411; Supplier 1: Digi-Key; Supplier Part Number 1: P12407-ND; ComponentLink1Description: Datasheet; ComponentLink1URL: http://industrial.panasonic.com/www-cgi/jvcr13pz.cgi?E+PZ+3+ABA0108+EEUFM1V122S+7+WW; ComponentLink2Description: Digi-Key Listing; ComponentLink2URL: https://www.digikey.com/product-detail/en/panasonic-electronic-components/EEU-FM1V122S/P12407-ND/613768; Tolerance: 20%; Voltage: 35V; Price: 1.05; Device Package: Radial, Can, 16mm
footprint CAP AL TH D16 L7.5 H22
pins: 1, 2

## EEU-FM1V182
designator C?, comment 1800uF  (value not drawn)
CAP ALUM 1800UF 20% 35V RADIAL; Part Number: EEU-FM1V182; Manufacturer: Panasonic Electronic Components; TemperatureRange: -40C ~ 105C; Type: Polar; Ripple Current: 3.056A @ 120Hz; Impedance: 14 mOhm; Value: 1800uF; PartId: 26860; Supplier 1: Digi-Key; Supplier Part Number 1: P12410-ND; ComponentLink1Description: Datasheet; ComponentLink1URL: https://industrial.panasonic.com/cdbs/www-data/pdf/RDF0000/ABA0000C63.pdf; ComponentLink2Description: Digi-Key Listing; ComponentLink2URL: https://www.digikey.com/product-detail/en/panasonic-electronic-components/EEU-FM1V182/P12410-ND/613771; Tolerance: 20%; Voltage: 35V; Price: 1.23; Device Package: Radial, Can, 16mm
footprint CAP AL TH D16 L7.5 H27
pins: 1, 2

## EEU-FM1V221
designator C?, comment 220uF  (value not drawn)
CAP ALUM 220UF 20% 35V RADIAL; Part Number: EEU-FM1V221; Manufacturer: Panasonic Electronic Components; TemperatureRange: -40C ~ 105C; Type: Polar; Ripple Current: 903mA @ 120Hz; Impedance: 38 mOhm; Value: 220uF; PartId: 24820; Supplier 1: Digi-Key; Supplier Part Number 1: P12411-ND; ComponentLink1Description: Datasheet; ComponentLink1URL: https://industrial.panasonic.com/cdbs/www-data/pdf/RDF0000/ABA0000C63.pdf; ComponentLink2Description: Digi-Key Listing; ComponentLink2URL: https://www.digikey.com/product-detail/en/panasonic-electronic-components/EEU-FM1V221/P12411-ND/613772; Tolerance: 20%; Voltage: 35V; Price: 0.46; Device Package: Radial, Can, 10mm
footprint CAP AL TH D10 L5 H14.5
pins: 1, 2

## EEU-FM1V221B
designator C?, comment 220uF  (value not drawn)
CAP ALUM 220UF 20% 35V RADIAL; Part Number: EEU-FM1V221B; Manufacturer: Panasonic Electronic Components; TemperatureRange: -40C ~ 105C; Type: Polar; Ripple Current: 903mA @ 120Hz; Impedance: 38 mOhm; Value: 220uF; PartId: 24579; Supplier 1: Digi-Key; Supplier Part Number 1: P19720TB-ND; ComponentLink1Description: Datasheet; ComponentLink1URL: http://industrial.panasonic.com/www-cgi/jvcr13pz.cgi?E+PZ+3+ABA0108+EEUFM1V221B+7+WW; ComponentLink2Description: Digi-Key Listing; ComponentLink2URL: https://www.digikey.com/product-detail/en/panasonic-electronic-components/EEU-FM1V221B/P19720TB-ND/616373; Tolerance: 20%; Voltage: 35V; Price: 0.1618; Device Package: Radial, Can, 10mm
footprint CAP AL TH D10 L5 H14.5
pins: 1, 2

## EEU-FM1V331
designator C?, comment 330uF  (value not drawn)
CAP ALUM 330UF 20% 35V RADIAL; Part Number: EEU-FM1V331; Manufacturer: Panasonic Electronic Components; TemperatureRange: -40C ~ 105C; Type: Polar; Ripple Current: 1.253A @ 120Hz; Impedance: 26 mOhm; Value: 330uF; PartId: 25268; Supplier 1: Digi-Key; Supplier Part Number 1: P12413-ND; ComponentLink1Description: Datasheet; ComponentLink1URL: https://industrial.panasonic.com/cdbs/www-data/pdf/RDF0000/ABA0000C63.pdf; ComponentLink2Description: Digi-Key Listing; ComponentLink2URL: https://www.digikey.com/product-detail/en/panasonic-electronic-components/EEU-FM1V331/P12413-ND/613774; Tolerance: 20%; Voltage: 35V; Price: 0.61; Device Package: Radial, Can, 10mm
footprint CAP AL TH D10 L5 H17.5
pins: 1, 2

## EEU-FM1V331B
designator C?, comment 330uF  (value not drawn)
CAP ALUM 330UF 20% 35V RADIAL; Part Number: EEU-FM1V331B; Manufacturer: Panasonic Electronic Components; TemperatureRange: -40C ~ 105C; Type: Polar; Ripple Current: 1.253A @ 120Hz; Impedance: 26 mOhm; Value: 330uF; PartId: 25035; Supplier 1: Digi-Key; Supplier Part Number 1: P19722TB-ND; ComponentLink1Description: Datasheet; ComponentLink1URL: http://industrial.panasonic.com/www-cgi/jvcr13pz.cgi?E+PZ+3+ABA0108+EEUFM1V331B+7+WW; ComponentLink2Description: Digi-Key Listing; ComponentLink2URL: https://www.digikey.com/product-detail/en/panasonic-electronic-components/EEU-FM1V331B/P19722TB-ND/616397; Tolerance: 20%; Voltage: 35V; Price: 0.1832; Device Package: Radial, Can, 10mm
footprint CAP AL TH D10 L5 H17.5
pins: 1, 2

## EEU-FM1V471
designator C?, comment 470uF  (value not drawn)
CAP ALUM 470UF 20% 35V RADIAL; Part Number: EEU-FM1V471; Manufacturer: Panasonic Electronic Components; TemperatureRange: -40C ~ 105C; Type: Polar; Ripple Current: 1.635A @ 120Hz; Impedance: 19 mOhm; Value: 470uF; PartId: 25932; Supplier 1: Digi-Key; Supplier Part Number 1: P12415-ND; ComponentLink1Description: Datasheet; ComponentLink1URL: https://industrial.panasonic.com/cdbs/www-data/pdf/RDF0000/ABA0000C63.pdf; ComponentLink2Description: Digi-Key Listing; ComponentLink2URL: https://www.digikey.com/product-detail/en/panasonic-electronic-components/EEU-FM1V471/P12415-ND/613776; Tolerance: 20%; Voltage: 35V; Price: 0.74; Device Package: Radial, Can, 10mm
footprint CAP AL TH D10 L5 H22
pins: 1, 2

## EEU-FM1V471B
designator C?, comment 470uF  (value not drawn)
CAP ALUM 470UF 20% 35V RADIAL; Part Number: EEU-FM1V471B; Manufacturer: Panasonic Electronic Components; TemperatureRange: -40C ~ 105C; Type: Polar; Ripple Current: 1.635A @ 120Hz; Impedance: 19 mOhm; Value: 470uF; PartId: 25786; Supplier 1: Digi-Key; Supplier Part Number 1: P19723TB-ND; ComponentLink1Description: Datasheet; ComponentLink1URL: http://industrial.panasonic.com/www-cgi/jvcr13pz.cgi?E+PZ+3+ABA0108+EEUFM1V471B+7+WW; ComponentLink2Description: Digi-Key Listing; ComponentLink2URL: https://www.digikey.com/product-detail/en/panasonic-electronic-components/EEU-FM1V471B/P19723TB-ND/616377; Tolerance: 20%; Voltage: 35V; Price: 0.2588; Device Package: Radial, Can, 10mm
footprint CAP AL TH D10 L5 H22
pins: 1, 2

## EEU-FM1V561L
designator C?, comment 560uF  (value not drawn)
CAP ALUM 560UF 20% 35V RADIAL; Part Number: EEU-FM1V561L; Manufacturer: Panasonic Electronic Components; TemperatureRange: -40C ~ 105C; Type: Polar; Ripple Current: 1.853A @ 120Hz; Impedance: 18 mOhm; Value: 560uF; PartId: 26067; Supplier 1: Digi-Key; Supplier Part Number 1: P12416-ND; ComponentLink1Description: Datasheet; ComponentLink1URL: http://industrial.panasonic.com/www-cgi/jvcr13pz.cgi?E+PZ+3+ABA0108+EEUFM1V561L+7+WW; ComponentLink2Description: Digi-Key Listing; ComponentLink2URL: https://www.digikey.com/product-detail/en/panasonic-electronic-components/EEU-FM1V561L/P12416-ND/613777; Tolerance: 20%; Voltage: 35V; Price: 0.69; Device Package: Radial, Can, 10mm
footprint CAP AL TH D10 L5 H30
pins: 1, 2

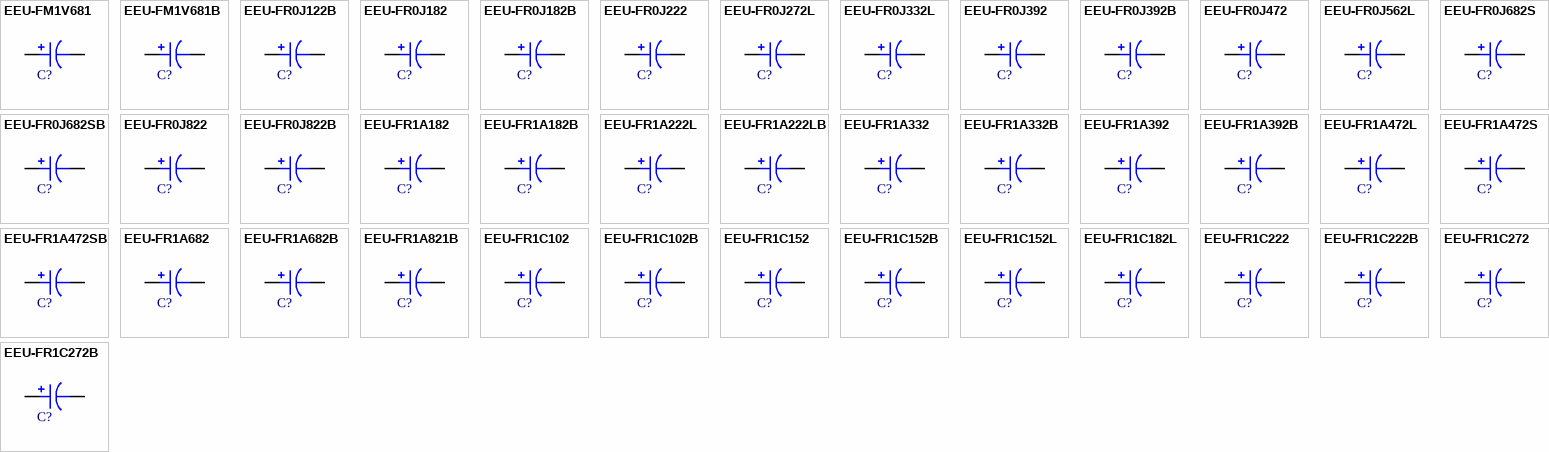
[diagram p33: symbols EEU-FM1V681 to EEU-FR1C272B]

## EEU-FM1V681
designator C?, comment 680uF  (value not drawn)
CAP ALUM 680UF 20% 35V RADIAL; Part Number: EEU-FM1V681; Manufacturer: Panasonic Electronic Components; TemperatureRange: -40C ~ 105C; Type: Polar; Ripple Current: 1.95A @ 120Hz; Impedance: 18 mOhm; Value: 680uF; PartId: 23343; Supplier 1: Digi-Key; Supplier Part Number 1: P12417-ND; ComponentLink1Description: Datasheet; ComponentLink1URL: https://industrial.panasonic.com/cdbs/www-data/pdf/RDF0000/ABA0000C63.pdf; ComponentLink2Description: Digi-Key Listing; ComponentLink2URL: https://www.digikey.com/product-detail/en/panasonic-electronic-components/EEU-FM1V681/P12417-ND/613778; Tolerance: 20%; Voltage: 35V; Price: 0.85; Device Package: Radial, Can, 12.5mm
footprint CAP AL TH D12.5 L5 H22
pins: 1, 2

## EEU-FM1V681B
designator C?, comment 680uF  (value not drawn)
CAP ALUM 680UF 20% 35V RADIAL; Part Number: EEU-FM1V681B; Manufacturer: Panasonic Electronic Components; TemperatureRange: -40C ~ 105C; Type: Polar; Ripple Current: 1.95A @ 120Hz; Impedance: 18 mOhm; Value: 680uF; PartId: 23366; Supplier 1: Digi-Key; Supplier Part Number 1: P19725CT-ND; ComponentLink1Description: Datasheet; ComponentLink1URL: http://industrial.panasonic.com/www-cgi/jvcr13pz.cgi?E+PZ+3+ABA0108+EEUFM1V681B+7+WW; ComponentLink2Description: Digi-Key Listing; ComponentLink2URL: https://www.digikey.com/product-detail/en/panasonic-electronic-components/EEU-FM1V681B/P19725CT-ND/6109623; Tolerance: 20%; Voltage: 35V; Price: 0.87; Device Package: Radial, Can, 12.5mm
footprint CAP AL TH D12.5 L5 H22
pins: 1, 2

## EEU-FR0J122B
designator C?, comment 1200uF  (value not drawn)
CAP ALUM 1200UF 20% 6.3V RADIAL; Part Number: EEU-FR0J122B; Manufacturer: Panasonic Electronic Components; TemperatureRange: -40C ~ 105C; Type: Polar; Ripple Current: 1.032A @ 120Hz; Impedance: 43 mOhm; Value: 1200uF; PartId: 24643; Supplier 1: Digi-Key; Supplier Part Number 1: P15303TB-ND; ComponentLink1Description: Datasheet; ComponentLink1URL: http://industrial.panasonic.com/cdbs/www-data/pdf/RDF0000/ABA0000C836.pdf; ComponentLink2Description: Digi-Key Listing; ComponentLink2URL: https://www.digikey.com/product-detail/en/panasonic-electronic-components/EEU-FR0J122B/P15303TB-ND/2504086; Tolerance: 20%; Voltage: 6.3V; Price: 0.2464; Device Package: Radial, Can, 10mm
footprint CAP AL TH D10 L5 H14.5
pins: 1, 2

## EEU-FR0J182
designator C?, comment 1800uF  (value not drawn)
CAP ALUM 1800UF 20% 6.3V RADIAL; Part Number: EEU-FR0J182; Manufacturer: Panasonic Electronic Components; TemperatureRange: -40C ~ 105C; Type: Polar; Ripple Current: 1.432A @ 120Hz; Impedance: 28 mOhm; Value: 1800uF; PartId: 25313; Supplier 1: Digi-Key; Supplier Part Number 1: P14364-ND; ComponentLink1Description: Datasheet; ComponentLink1URL: http://industrial.panasonic.com/cdbs/www-data/pdf/RDF0000/ABA0000C836.pdf; ComponentLink2Description: Digi-Key Listing; ComponentLink2URL: https://www.digikey.com/product-detail/en/panasonic-electronic-components/EEU-FR0J182/P14364-ND/2433498; Tolerance: 20%; Voltage: 6.3V; Price: 0.65; Device Package: Radial, Can, 10mm
footprint CAP AL TH D10 L5 H17.5
pins: 1, 2

## EEU-FR0J182B
designator C?, comment 1800uF  (value not drawn)
CAP ALUM 1800UF 20% 6.3V RADIAL; Part Number: EEU-FR0J182B; Manufacturer: Panasonic Electronic Components; TemperatureRange: -40C ~ 105C; Type: Polar; Ripple Current: 1.432A @ 120Hz; Impedance: 28 mOhm; Value: 1800uF; PartId: 25091; Supplier 1: Digi-Key; Supplier Part Number 1: P15307TB-ND; ComponentLink1Description: Datasheet; ComponentLink1URL: http://industrial.panasonic.com/cdbs/www-data/pdf/RDF0000/ABA0000C836.pdf; ComponentLink2Description: Digi-Key Listing; ComponentLink2URL: https://www.digikey.com/product-detail/en/panasonic-electronic-components/EEU-FR0J182B/P15307TB-ND/2504096; Tolerance: 20%; Voltage: 6.3V; Price: 0.2597; Device Package: Radial, Can, 10mm
footprint CAP AL TH D10 L5 H17.5
pins: 1, 2

## EEU-FR0J222
designator C?, comment 2200uF  (value not drawn)
CAP ALUM 2200UF 20% 6.3V RADIAL; Part Number: EEU-FR0J222; Manufacturer: Panasonic Electronic Components; TemperatureRange: -40C ~ 105C; Type: Polar; Ripple Current: 1.744A @ 120Hz; Impedance: 20 mOhm; Value: 2200uF; PartId: 25923; Supplier 1: Digi-Key; Supplier Part Number 1: P14365-ND; ComponentLink1Description: Datasheet; ComponentLink1URL: http://industrial.panasonic.com/cdbs/www-data/pdf/RDF0000/ABA0000C836.pdf; ComponentLink2Description: Digi-Key Listing; ComponentLink2URL: https://www.digikey.com/product-detail/en/panasonic-electronic-components/EEU-FR0J222/P14365-ND/2433499; Tolerance: 20%; Voltage: 6.3V; Price: 0.72; Device Package: Radial, Can, 10mm
footprint CAP AL TH D10 L5 H22
pins: 1, 2

## EEU-FR0J272L
designator C?, comment 2700uF  (value not drawn)
CAP ALUM 2700UF 20% 6.3V RADIAL; Part Number: EEU-FR0J272L; Manufacturer: Panasonic Electronic Components; TemperatureRange: -40C ~ 105C; Type: Polar; Ripple Current: 1.976A @ 120Hz; Impedance: 18 mOhm; Value: 2700uF; PartId: 26163; Supplier 1: Digi-Key; Supplier Part Number 1: P14366-ND; ComponentLink1Description: Datasheet; ComponentLink1URL: http://industrial.panasonic.com/cdbs/www-data/pdf/RDF0000/ABA0000C836.pdf; ComponentLink2Description: Digi-Key Listing; ComponentLink2URL: https://www.digikey.com/product-detail/en/panasonic-electronic-components/EEU-FR0J272L/P14366-ND/2433500; Tolerance: 20%; Voltage: 6.3V; Price: 0.87; Device Package: Radial, Can, 10mm
footprint CAP AL TH D10 L5 H30
pins: 1, 2

## EEU-FR0J332L
designator C?, comment 3300uF  (value not drawn)
CAP ALUM 3300UF 20% 6.3V RADIAL; Part Number: EEU-FR0J332L; Manufacturer: Panasonic Electronic Components; TemperatureRange: -40C ~ 105C; Type: Polar; Ripple Current: 1.976A @ 120Hz; Impedance: 18 mOhm; Value: 3300uF; PartId: 26164; Supplier 1: Digi-Key; Supplier Part Number 1: P16744-ND; ComponentLink1Description: Datasheet; ComponentLink1URL: http://industrial.panasonic.com/cdbs/www-data/pdf/RDF0000/ABA0000C836.pdf; ComponentLink2Description: Digi-Key Listing; ComponentLink2URL: https://www.digikey.com/product-detail/en/panasonic-electronic-components/EEU-FR0J332L/P16744-ND/4289597; Tolerance: 20%; Voltage: 6.3V; Price: 0.87; Device Package: Radial, Can, 10mm
footprint CAP AL TH D10 L5 H30
pins: 1, 2

## EEU-FR0J392
designator C?, comment 3900uF  (value not drawn)
CAP ALUM 3900UF 20% 6.3V RADIAL; Part Number: EEU-FR0J392; Manufacturer: Panasonic Electronic Components; TemperatureRange: -40C ~ 105C; Type: Polar; Ripple Current: 2.08A @ 120Hz; Impedance: 18 mOhm; Value: 3900uF; PartId: 23444; Supplier 1: Digi-Key; Supplier Part Number 1: P14367-ND; ComponentLink1Description: Datasheet; ComponentLink1URL: http://industrial.panasonic.com/cdbs/www-data/pdf/RDF0000/ABA0000C836.pdf; ComponentLink2Description: Digi-Key Listing; ComponentLink2URL: https://www.digikey.com/product-detail/en/panasonic-electronic-components/EEU-FR0J392/P14367-ND/2433501; Tolerance: 20%; Voltage: 6.3V; Price: 1.04; Device Package: Radial, Can, 12.5mm
footprint CAP AL TH D12.5 L5 H22
pins: 1, 2

## EEU-FR0J392B
designator C?, comment 3900uF  (value not drawn)
CAP ALUM 3900UF 20% 6.3V RADIAL; Part Number: EEU-FR0J392B; Manufacturer: Panasonic Electronic Components; TemperatureRange: -40C ~ 105C; Type: Polar; Ripple Current: 2.08A @ 120Hz; Impedance: 18 mOhm; Value: 3900uF; PartId: 23191; Supplier 1: Digi-Key; Supplier Part Number 1: P15311TB-ND; ComponentLink1Description: Datasheet; ComponentLink1URL: http://industrial.panasonic.com/cdbs/www-data/pdf/RDF0000/ABA0000C836.pdf; ComponentLink2Description: Digi-Key Listing; ComponentLink2URL: https://www.digikey.com/product-detail/en/panasonic-electronic-components/EEU-FR0J392B/P15311TB-ND/2504167; Tolerance: 20%; Voltage: 6.3V; Price: 0.4379; Device Package: Radial, Can, 12.5mm
footprint CAP AL TH D12.5 L5 H22
pins: 1, 2

## EEU-FR0J472
designator C?, comment 4700uF  (value not drawn)
CAP ALUM 4700UF 20% 6.3V RADIAL; Part Number: EEU-FR0J472; Manufacturer: Panasonic Electronic Components; TemperatureRange: -40C ~ 105C; Type: Polar; Ripple Current: 2.552A @ 120Hz; Impedance: 15 mOhm; Value: 4700uF; PartId: 24025; Supplier 1: Digi-Key; Supplier Part Number 1: P14368-ND; ComponentLink1Description: Datasheet; ComponentLink1URL: http://industrial.panasonic.com/cdbs/www-data/pdf/RDF0000/ABA0000C836.pdf; ComponentLink2Description: Digi-Key Listing; ComponentLink2URL: https://www.digikey.com/product-detail/en/panasonic-electronic-components/EEU-FR0J472/P14368-ND/2433502; Tolerance: 20%; Voltage: 6.3V; Price: 1.08; Device Package: Radial, Can, 12.5mm
footprint CAP AL TH D12.5 L5 H27
pins: 1, 2